# EAGLE library part MC33883 (library ee192)
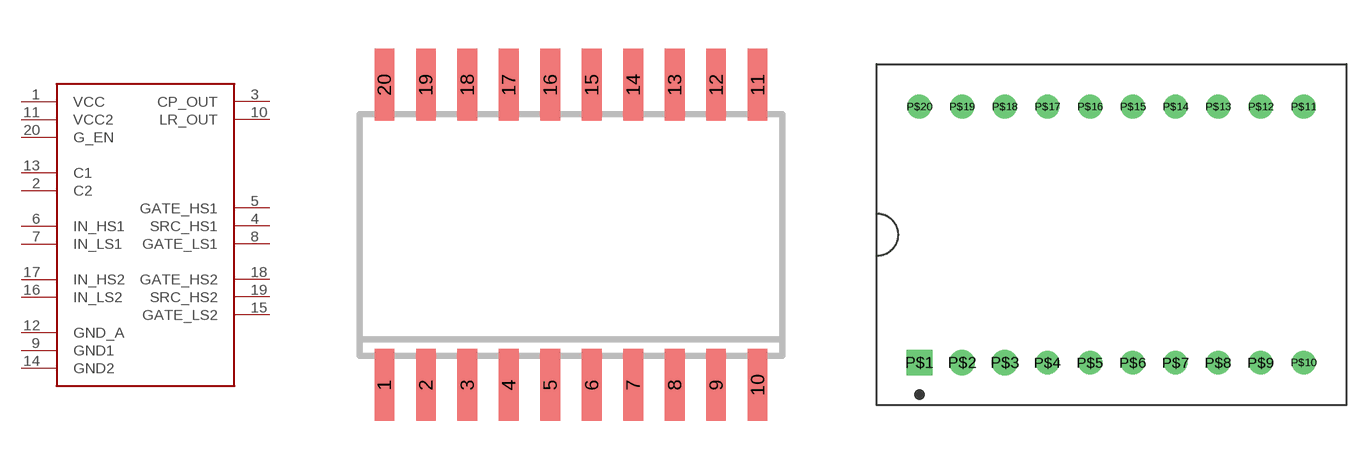
[diagram p5: symbol with the pads of SO20W; footprints SO20W, DIL20_600MIL]

Designator prefix -

## MC33883SO20W  [SO20W]
1  VCC
2  C2
3  CP_OUT
4  SRC_HS1
5  GATE_HS1
6  IN_HS1
7  IN_LS1
8  GATE_LS1
9  GND1
10  LR_OUT
11  VCC2
12  GND_A
13  C1
14  GND2
15  GATE_LS2
16  IN_LS2
17  IN_HS2
18  GATE_HS2
19  SRC_HS2
20  G_EN

## MC33883DIL20_600MIL_CARRIER  [DIL20_600MIL]
P$1  VCC
P$2  C2
P$3  CP_OUT
P$4  SRC_HS1
P$5  GATE_HS1
P$6  IN_HS1
P$7  IN_LS1
P$8  GATE_LS1
P$9  GND1
P$10  LR_OUT
P$11  VCC2
P$12  GND_A
P$13  C1
P$14  GND2
P$15  GATE_LS2
P$16  IN_LS2
P$17  IN_HS2
P$18  GATE_HS2
P$19  SRC_HS2
P$20  G_EN

## Footprint SO20W (pad centres in mm)
SMALL OUTLINE INTEGRATED CIRCUIT wide body 7.5 mm/JEDEC MS-013AC
smd 0.6 x 2.2: 1 -5.715,-4.6; 2 -4.445,-4.6; 3 -3.175,-4.6; 4 -1.905,-4.6; 5 -0.635,-4.6; 6 0.635,-4.6; 7 1.905,-4.6; 8 3.175,-4.6; 9 4.445,-4.6; 10 5.715,-4.6; 11 5.715,4.6; 12 4.445,4.6; 13 3.175,4.6; 14 1.905,4.6; 15 0.635,4.6; 16 -0.635,4.6; 17 -1.905,4.6; 18 -3.175,4.6; 19 -4.445,4.6; 20 -5.715,4.6

## Footprint DIL20_600MIL (pad centres in mm)
drill 0.914 pad 1.524 square: P$1 -11.43,-7.62
drill 0.914 pad 1.524: P$2 -8.89,-7.62; P$3 -6.35,-7.62
drill 0.914: P$4 -3.81,-7.62; P$5 -1.27,-7.62; P$6 1.27,-7.62; P$7 3.81,-7.62; P$8 6.35,-7.62; P$9 8.89,-7.62; P$10 11.43,-7.62; P$11 11.43,7.62; P$12 8.89,7.62; P$13 6.35,7.62; P$14 3.81,7.62; P$15 1.27,7.62; P$16 -1.27,7.62; P$17 -3.81,7.62; P$18 -6.35,7.62; P$19 -8.89,7.62; P$20 -11.43,7.62